# Altium schematic symbol library Connect8_SMD.SchLib: 1 symbol
Pins are listed as number, name and electrical type; pins without a type are passive.

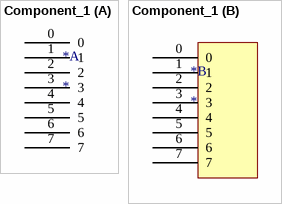
[diagram p0: symbol Component_1]

## Component_1
designator *
footprint PCBComponent_1
part A pins: 0, 1, 2, 3, 4, 5, 6, 7
part B pins: 0, 1, 2, 3, 4, 5, 6, 7